# Altium footprint library Inductor_THT.PcbLib: 269 footprints (part 17 of 17)
Each footprint in its own frame and in the unit in brackets; x right, y up, seen from the top. Pads: shape width x height; smd on the part's side, far side on the other; paste and mask are expansions set on the pad; w line width, h text height; cw(c..) or ccw(c..) is an arc to the next point about the centre after c.
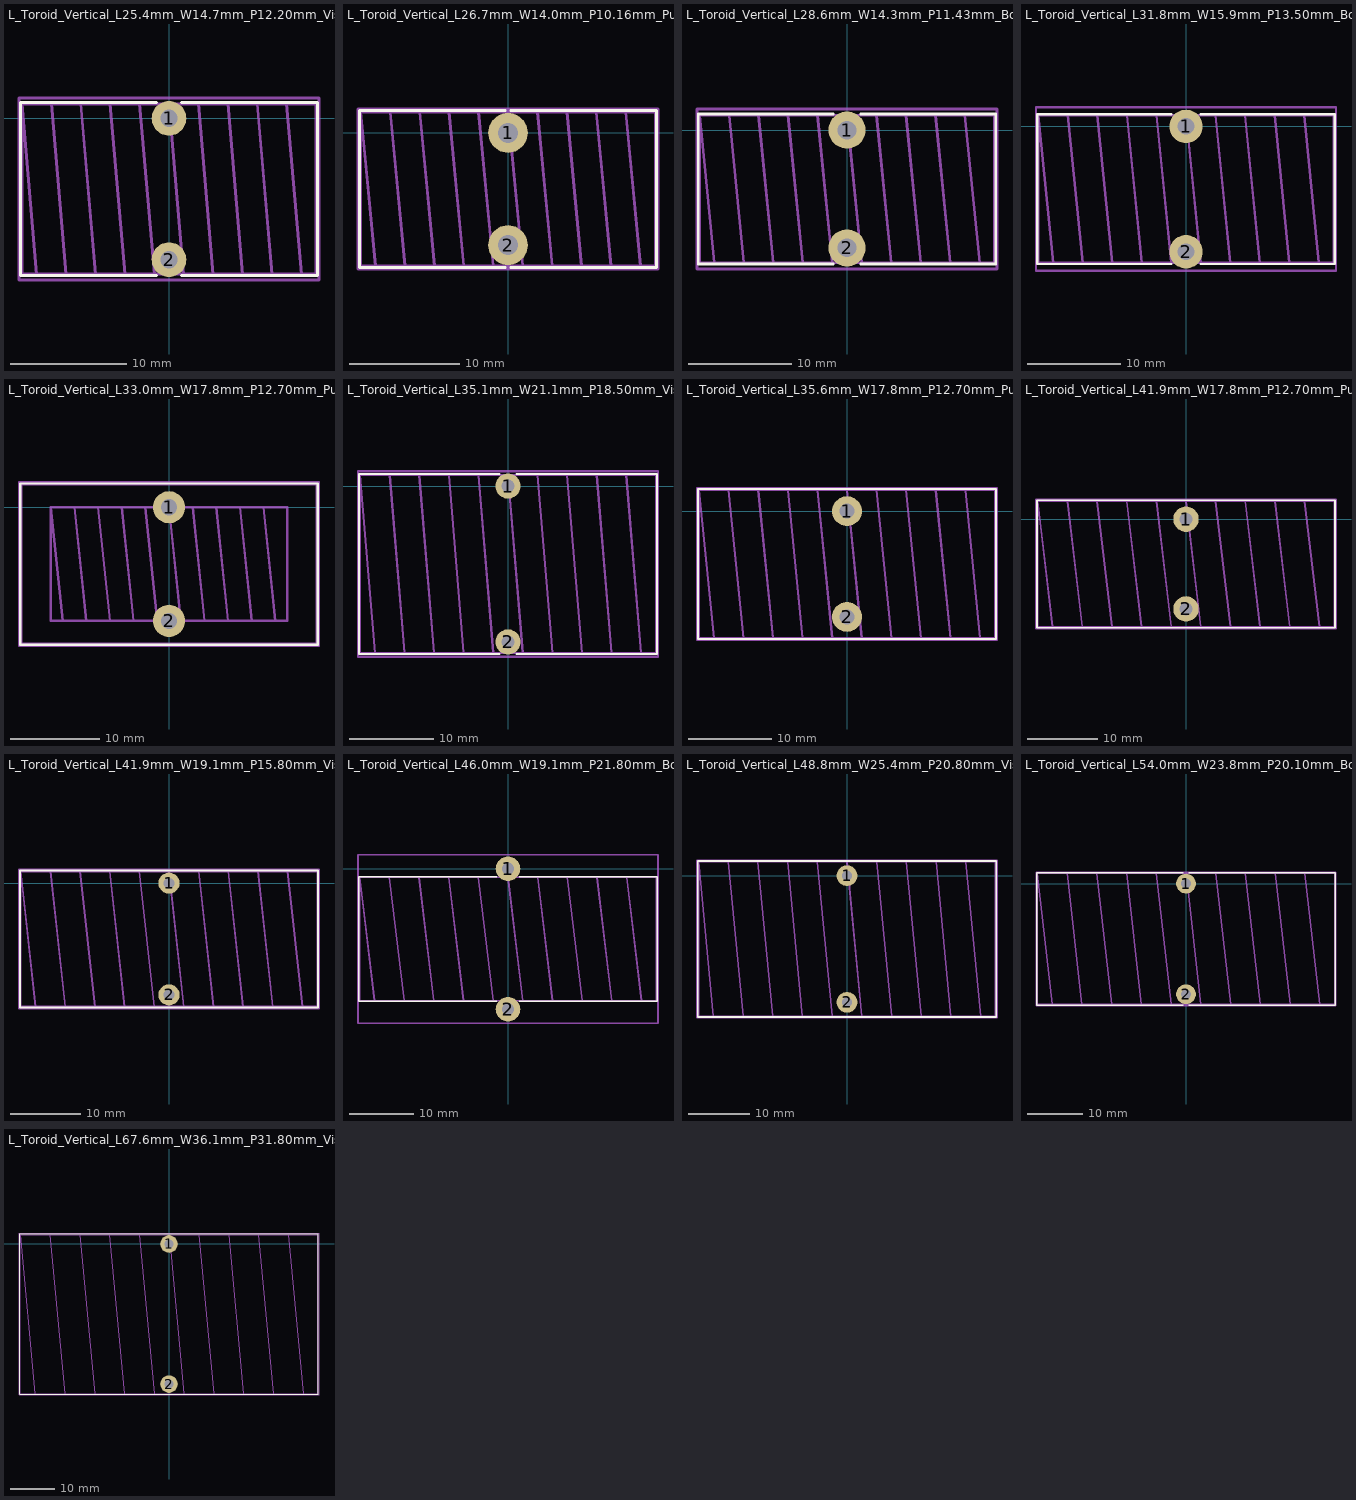
[diagram p16: the footprints below, top view; thin cyan lines are the x and y axes]

## L_Toroid_Vertical_L25.4mm_W14.7mm_P12.20mm_Vishay_TJ5_BigPads [mm]
pads (2):
  round 3 hole 1.5: 1(0,0) 2(0,-12.2)
F.SilkS:
  lines w0.254: -1.073,-13.57 -12.82,-13.57 -12.82,1.37 -1.073,1.37 ; 1.073,-13.57 12.82,-13.57 12.82,1.37 1.073,1.37
Top Assembly:
  lines w0.254: -11.43,-13.45 -12.7,1.25 ; -10.16,1.25 -8.89,-13.45 ; -7.62,1.25 -6.35,-13.45 ; -5.08,1.25 -3.81,-13.45 ; -2.54,1.25 -1.27,-13.45 ; 0,1.25 1.27,-13.45 ; 2.54,1.25 3.81,-13.45 ; 5.08,1.25 6.35,-13.45 ; 7.62,1.25 8.89,-13.45 ; 10.16,1.25 11.43,-13.45 ; -12.7,1.25 12.7,1.25 12.7,-13.45 -12.7,-13.45 -12.7,1.25
  text "'.Designator'" at 2.053,-0.84 h1
Top Courtyard:
  lines w0.254: -12.95,-13.95 12.95,-13.95 12.95,1.75 -12.95,1.75 -12.95,-13.95
Top Designator:
  text ".Designator" at -7.618,-6.608 h1.52

## L_Toroid_Vertical_L26.7mm_W14.0mm_P10.16mm_Pulse_D [mm]
pads (2):
  round 3.6 hole 1.8: 1(0,0) 2(0,-10.16)
F.SilkS:
  lines w0.254: -0.247,-12.185 -13.455,-12.185 -13.455,2.025 -0.247,2.025 ; 0.247,-12.185 13.455,-12.185 13.455,2.025 0.247,2.025
Top Assembly:
  lines w0.254: -12.002,-12.065 -13.335,1.905 ; -10.668,1.905 -9.335,-12.065 ; -8.001,1.905 -6.667,-12.065 ; -5.334,1.905 -4,-12.065 ; -2.667,1.905 -1.333,-12.065 ; 0,1.905 1.333,-12.065 ; 2.667,1.905 4,-12.065 ; 5.334,1.905 6.667,-12.065 ; 8.001,1.905 9.335,-12.065 ; 10.668,1.905 12.002,-12.065 ; -13.335,1.905 13.335,1.905 13.335,-12.065 -13.335,-12.065 -13.335,1.905
  text "'.Designator'" at 1.033,-0.84 h1
Top Courtyard:
  lines w0.254: -13.59,-12.32 13.59,-12.32 13.59,2.16 -13.59,2.16 -13.59,-12.32
Top Designator:
  text ".Designator" at -7.618,-5.588 h1.52

## L_Toroid_Vertical_L28.6mm_W14.3mm_P11.43mm_Bourns_5700 [mm]
pads (2):
  round 3.6 hole 1.8: 1(0,0) 2(0,-11.43)
F.SilkS:
  lines w0.254: -1.32,-12.985 -14.42,-12.985 -14.42,1.555 -1.32,1.555 ; 1.32,-12.985 14.42,-12.985 14.42,1.555 1.32,1.555
Top Assembly:
  lines w0.254: -12.87,-12.865 -14.3,1.435 ; -11.44,1.435 -10.01,-12.865 ; -8.58,1.435 -7.15,-12.865 ; -5.72,1.435 -4.29,-12.865 ; -2.86,1.435 -1.43,-12.865 ; 0,1.435 1.43,-12.865 ; 2.86,1.435 4.29,-12.865 ; 5.72,1.435 7.15,-12.865 ; 8.58,1.435 10.01,-12.865 ; 11.44,1.435 12.87,-12.865 ; -14.3,1.435 14.3,1.435 14.3,-12.865 -14.3,-12.865 -14.3,1.435
  text "'.Designator'" at 1.668,-0.84 h1
Top Courtyard:
  lines w0.254: -14.55,-13.48 14.55,-13.48 14.55,2.05 -14.55,2.05 -14.55,-13.48
Top Designator:
  text ".Designator" at -7.618,-6.223 h1.52

## L_Toroid_Vertical_L31.8mm_W15.9mm_P13.50mm_Bourns_5700 [mm]
pads (2):
  round 3.6 hole 1.8: 1(0,0) 2(0,-13.5)
F.SilkS:
  lines w0.254: -1.555,-14.82 -16.02,-14.82 -16.02,1.32 -1.555,1.32 ; 1.555,-14.82 16.02,-14.82 16.02,1.32 1.555,1.32
Top Assembly:
  lines w0.254: -14.31,-14.7 -15.9,1.2 ; -12.72,1.2 -11.13,-14.7 ; -9.54,1.2 -7.95,-14.7 ; -6.36,1.2 -4.77,-14.7 ; -3.18,1.2 -1.59,-14.7 ; 0,1.2 1.59,-14.7 ; 3.18,1.2 4.77,-14.7 ; 6.36,1.2 7.95,-14.7 ; 9.54,1.2 11.13,-14.7 ; 12.72,1.2 14.31,-14.7 ; -15.9,1.2 15.9,1.2 15.9,-14.7 -15.9,-14.7 -15.9,1.2
  text "'.Designator'" at 2.703,-0.84 h1
Top Courtyard:
  lines w0.254: -16.15,-15.55 16.15,-15.55 16.15,2.06 -16.15,2.06 -16.15,-15.55
Top Designator:
  text ".Designator" at -7.618,-7.253 h1.52

## L_Toroid_Vertical_L33.0mm_W17.8mm_P12.70mm_Pulse_KM-5 [mm]
pads (2):
  round 3.6 hole 1.8: 1(0,0) 2(0,-12.7)
F.SilkS:
  lines w0.254: -16.63,-15.36 16.63,-15.36 16.63,2.66 -16.63,2.66 -16.63,-15.36
Top Assembly:
  lines w0.254: -11.887,-12.7 -13.208,0 ; -10.566,0 -9.246,-12.7 ; -7.925,0 -6.604,-12.7 ; -5.283,0 -3.962,-12.7 ; -2.642,0 -1.321,-12.7 ; 0,0 1.321,-12.7 ; 2.642,0 3.962,-12.7 ; 5.283,0 6.604,-12.7 ; 7.925,0 9.246,-12.7 ; 10.566,0 11.887,-12.7 ; -13.208,0 13.208,0 13.208,-12.7 -13.208,-12.7 -13.208,0 ; -16.51,-15.24 16.51,-15.24 16.51,2.54 -16.51,2.54 -16.51,-15.24
  text "'.Designator'" at 2.303,-0.84 h1
Top Courtyard:
  lines w0.254: -16.77,-15.49 16.77,-15.49 16.77,2.8 -16.77,2.8 -16.77,-15.49
Top Designator:
  text ".Designator" at -7.618,-6.853 h1.52

## L_Toroid_Vertical_L35.1mm_W21.1mm_P18.50mm_Vishay_TJ6 [mm]
pads (2):
  round 3 hole 1.5: 1(0,0) 2(0,-18.5)
F.SilkS:
  lines w0.254: -1.006,-19.92 -17.67,-19.92 -17.67,1.42 -1.006,1.42 ; 1.006,-19.92 17.67,-19.92 17.67,1.42 1.006,1.42
Top Assembly:
  lines w0.254: -15.795,-19.8 -17.55,1.3 ; -14.04,1.3 -12.285,-19.8 ; -10.53,1.3 -8.775,-19.8 ; -7.02,1.3 -5.265,-19.8 ; -3.51,1.3 -1.755,-19.8 ; 0,1.3 1.755,-19.8 ; 3.51,1.3 5.265,-19.8 ; 7.02,1.3 8.775,-19.8 ; 10.53,1.3 12.285,-19.8 ; 14.04,1.3 15.795,-19.8 ; -17.55,1.3 17.55,1.3 17.55,-19.8 -17.55,-19.8 -17.55,1.3
  text "'.Designator'" at 5.203,-0.84 h1
Top Courtyard:
  lines w0.254: -17.8,-20.25 17.8,-20.25 17.8,1.75 -17.8,1.75 -17.8,-20.25
Top Designator:
  text ".Designator" at -7.618,-9.758 h1.52

## L_Toroid_Vertical_L35.6mm_W17.8mm_P12.70mm_Pulse_E [mm]
pads (2):
  round 3.6 hole 1.8: 1(0,0) 2(0,-12.7)
F.SilkS:
  lines w0.254: -17.9,-15.36 17.9,-15.36 17.9,2.66 -17.9,2.66 -17.9,-15.36
Top Assembly:
  lines w0.254: -16.002,-15.24 -17.78,2.54 ; -14.224,2.54 -12.446,-15.24 ; -10.668,2.54 -8.89,-15.24 ; -7.112,2.54 -5.334,-15.24 ; -3.556,2.54 -1.778,-15.24 ; 0,2.54 1.778,-15.24 ; 3.556,2.54 5.334,-15.24 ; 7.112,2.54 8.89,-15.24 ; 10.668,2.54 12.446,-15.24 ; 14.224,2.54 16.002,-15.24 ; -17.78,2.54 17.78,2.54 17.78,-15.24 -17.78,-15.24 -17.78,2.54
  text "'.Designator'" at 2.303,-0.84 h1
Top Courtyard:
  lines w0.254: -18.03,-15.49 18.03,-15.49 18.03,2.8 -18.03,2.8 -18.03,-15.49
Top Designator:
  text ".Designator" at -7.618,-6.853 h1.52

## L_Toroid_Vertical_L41.9mm_W17.8mm_P12.70mm_Pulse_F [mm]
pads (2):
  round 3.6 hole 1.8: 1(0,0) 2(0,-12.7)
F.SilkS:
  lines w0.254: -21.075,-15.36 21.075,-15.36 21.075,2.66 -21.075,2.66 -21.075,-15.36
Top Assembly:
  lines w0.254: -18.86,-15.24 -20.955,2.54 ; -16.764,2.54 -14.668,-15.24 ; -12.573,2.54 -10.477,-15.24 ; -8.382,2.54 -6.286,-15.24 ; -4.191,2.54 -2.095,-15.24 ; 0,2.54 2.095,-15.24 ; 4.191,2.54 6.286,-15.24 ; 8.382,2.54 10.477,-15.24 ; 12.573,2.54 14.668,-15.24 ; 16.764,2.54 18.86,-15.24 ; -20.955,2.54 20.955,2.54 20.955,-15.24 -20.955,-15.24 -20.955,2.54
  text "'.Designator'" at 2.303,-0.84 h1
Top Courtyard:
  lines w0.254: -21.21,-15.49 21.21,-15.49 21.21,2.8 -21.21,2.8 -21.21,-15.49
Top Designator:
  text ".Designator" at -7.618,-6.853 h1.52

## L_Toroid_Vertical_L41.9mm_W19.1mm_P15.80mm_Vishay_TJ7 [mm]
pads (2):
  round 3 hole 1.5: 1(0,0) 2(0,-15.8)
F.SilkS:
  lines w0.254: -21.07,-17.57 21.07,-17.57 21.07,1.77 -21.07,1.77 -21.07,-17.57
Top Assembly:
  lines w0.254: -18.855,-17.45 -20.95,1.65 ; -16.76,1.65 -14.665,-17.45 ; -12.57,1.65 -10.475,-17.45 ; -8.38,1.65 -6.285,-17.45 ; -4.19,1.65 -2.095,-17.45 ; 0,1.65 2.095,-17.45 ; 4.19,1.65 6.285,-17.45 ; 8.38,1.65 10.475,-17.45 ; 12.57,1.65 14.665,-17.45 ; 16.76,1.65 18.855,-17.45 ; -20.95,1.65 20.95,1.65 20.95,-17.45 -20.95,-17.45 -20.95,1.65
  text "'.Designator'" at 3.853,-0.84 h1
Top Courtyard:
  lines w0.254: -21.2,-17.71 21.2,-17.71 21.2,1.91 -21.2,1.91 -21.2,-17.71
Top Designator:
  text ".Designator" at -7.618,-8.408 h1.52

## L_Toroid_Vertical_L46.0mm_W19.1mm_P21.80mm_Bourns_5700 [mm]
pads (2):
  round 3.8 hole 1.9: 1(0,0) 2(0,-21.8)
F.SilkS:
  lines w0.254: -1.751,-20.57 -23.12,-20.57 -23.12,-1.23 -1.751,-1.23 ; 1.751,-20.57 23.12,-20.57 23.12,-1.23 1.751,-1.23
Top Assembly:
  lines w0.254: -20.7,-20.45 -23,-1.35 ; -18.4,-1.35 -16.1,-20.45 ; -13.8,-1.35 -11.5,-20.45 ; -9.2,-1.35 -6.9,-20.45 ; -4.6,-1.35 -2.3,-20.45 ; 0,-1.35 2.3,-20.45 ; 4.6,-1.35 6.9,-20.45 ; 9.2,-1.35 11.5,-20.45 ; 13.8,-1.35 16.1,-20.45 ; 18.4,-1.35 20.7,-20.45 ; -23,-1.35 23,-1.35 23,-20.45 -23,-20.45 -23,-1.35
  text "'.Designator'" at 6.853,-0.84 h1
Top Courtyard:
  lines w0.254: -23.25,-23.96 23.25,-23.96 23.25,2.16 -23.25,2.16 -23.25,-23.96
Top Designator:
  text ".Designator" at -7.618,-11.408 h1.52

## L_Toroid_Vertical_L48.8mm_W25.4mm_P20.80mm_Vishay_TJ8 [mm]
pads (2):
  round 3.4 hole 1.7: 1(0,0) 2(0,-20.8)
F.SilkS:
  lines w0.254: -24.52,-23.22 24.52,-23.22 24.52,2.42 -24.52,2.42 -24.52,-23.22
Top Assembly:
  lines w0.254: -21.96,-23.1 -24.4,2.3 ; -19.52,2.3 -17.08,-23.1 ; -14.64,2.3 -12.2,-23.1 ; -9.76,2.3 -7.32,-23.1 ; -4.88,2.3 -2.44,-23.1 ; 0,2.3 2.44,-23.1 ; 4.88,2.3 7.32,-23.1 ; 9.76,2.3 12.2,-23.1 ; 14.64,2.3 17.08,-23.1 ; 19.52,2.3 21.96,-23.1 ; -24.4,2.3 24.4,2.3 24.4,-23.1 -24.4,-23.1 -24.4,2.3
  text "'.Designator'" at 6.353,-0.84 h1
Top Courtyard:
  lines w0.254: -24.65,-23.35 24.65,-23.35 24.65,2.55 -24.65,2.55 -24.65,-23.35
Top Designator:
  text ".Designator" at -7.618,-10.908 h1.52

## L_Toroid_Vertical_L54.0mm_W23.8mm_P20.10mm_Bourns_5700 [mm]
pads (2):
  round 3.6 hole 1.8: 1(0,0) 2(0,-20.1)
F.SilkS:
  lines w0.254: -0.53,-22.07 -27.12,-22.07 -27.12,1.97 -0.53,1.97 ; 0.53,-22.07 27.12,-22.07 27.12,1.97 0.53,1.97
Top Assembly:
  lines w0.254: -24.3,-21.95 -27,1.85 ; -21.6,1.85 -18.9,-21.95 ; -16.2,1.85 -13.5,-21.95 ; -10.8,1.85 -8.1,-21.95 ; -5.4,1.85 -2.7,-21.95 ; 0,1.85 2.7,-21.95 ; 5.4,1.85 8.1,-21.95 ; 10.8,1.85 13.5,-21.95 ; 16.2,1.85 18.9,-21.95 ; 21.6,1.85 24.3,-21.95 ; -27,1.85 27,1.85 27,-21.95 -27,-21.95 -27,1.85
  text "'.Designator'" at 6.003,-0.84 h1
Top Courtyard:
  lines w0.254: -27.25,-22.21 27.25,-22.21 27.25,2.1 -27.25,2.1 -27.25,-22.21
Top Designator:
  text ".Designator" at -7.618,-10.563 h1.52

## L_Toroid_Vertical_L67.6mm_W36.1mm_P31.80mm_Vishay_TJ9 [mm]
pads (2):
  round 4 hole 2: 1(0,0) 2(0,-31.8)
F.SilkS:
  lines w0.254: -33.92,-34.07 -33.92,2.27 33.92,2.27 33.92,-34.07 -33.92,-34.07
Top Assembly:
  lines w0.254: -30.42,-33.95 -33.8,2.15 ; -27.04,2.15 -23.66,-33.95 ; -20.28,2.15 -16.9,-33.95 ; -13.52,2.15 -10.14,-33.95 ; -6.76,2.15 -3.38,-33.95 ; 0,2.15 3.38,-33.95 ; 6.76,2.15 10.14,-33.95 ; 13.52,2.15 16.9,-33.95 ; 20.28,2.15 23.66,-33.95 ; 27.04,2.15 30.42,-33.95 ; -33.8,2.15 -33.8,-33.95 33.8,-33.95 33.8,2.15 -33.8,2.15
  text "'.Designator'" at 11.853,-0.84 h1
Top Courtyard:
  lines w0.254: -34.05,-34.2 -34.05,2.41 34.05,2.41 34.05,-34.2 -34.05,-34.2
Top Designator:
  text ".Designator" at -7.618,-16.403 h1.52